# Altium schematic symbol library TL750M05.Schlib: 1 symbol
Pins are listed as number, name and electrical type; pins without a type are passive.

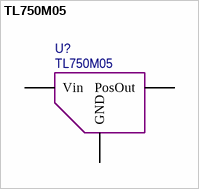
[diagram p0: symbol TL750M05]

## TL750M05
designator U?
pins: 1 Vin, 3 PosOut, 4 GND